# EAGLE library part MKL02Z32VFG4 (library tft_display)
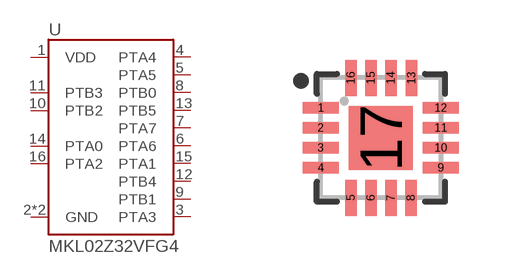
[diagram p1: symbol with the pads of QFN-16; footprint QFN-16]

Designator prefix U

## MKL02Z32VFG4QFN-16 (PROD_ID: IC-14906)  [QFN-16]
1  VDD
2  GND
3  PTA3
4  PTA4
5  PTA5
6  PTA6
7  PTA7
8  PTB0
9  PTB1
10  PTB2
11  PTB3
12  PTB4
13  PTB5
14  PTA0
15  PTA1
16  PTA2
17  GND

## Footprint QFN-16 (pad centres in mm)
QFN-16 - 3.0mm x 3.0mm package for the MLX90393 Specifications: Pin count: 16 Pin pitch: .5mm Area: 3.0mm x 3.0mm Datasheet referenced for footprint <file:///C:/Users/andrew.england/Downloads/MLX90393-Datasheet-Melexis%20(1).pdf>
smd 0.9 x 0.29: 1 -1.5,0.75; 2 -1.5,0.25; 3 -1.5,-0.25; 4 -1.5,-0.75; 9 1.5,-0.75; 10 1.5,-0.25; 11 1.5,0.25; 12 1.5,0.75
smd 0.29 x 0.9: 5 -0.75,-1.5; 6 -0.25,-1.5; 7 0.25,-1.5; 8 0.75,-1.5; 13 0.765,1.5; 14 0.25,1.5; 15 -0.25,1.5; 16 -0.75,1.5
smd 1.6 x 1.6: 17 0,0